# Altium integrated library Linear Technology Power Management Switching Regulator LTC1174-LTC3901.IntLib: 2647 symbols (part 282 of 364)
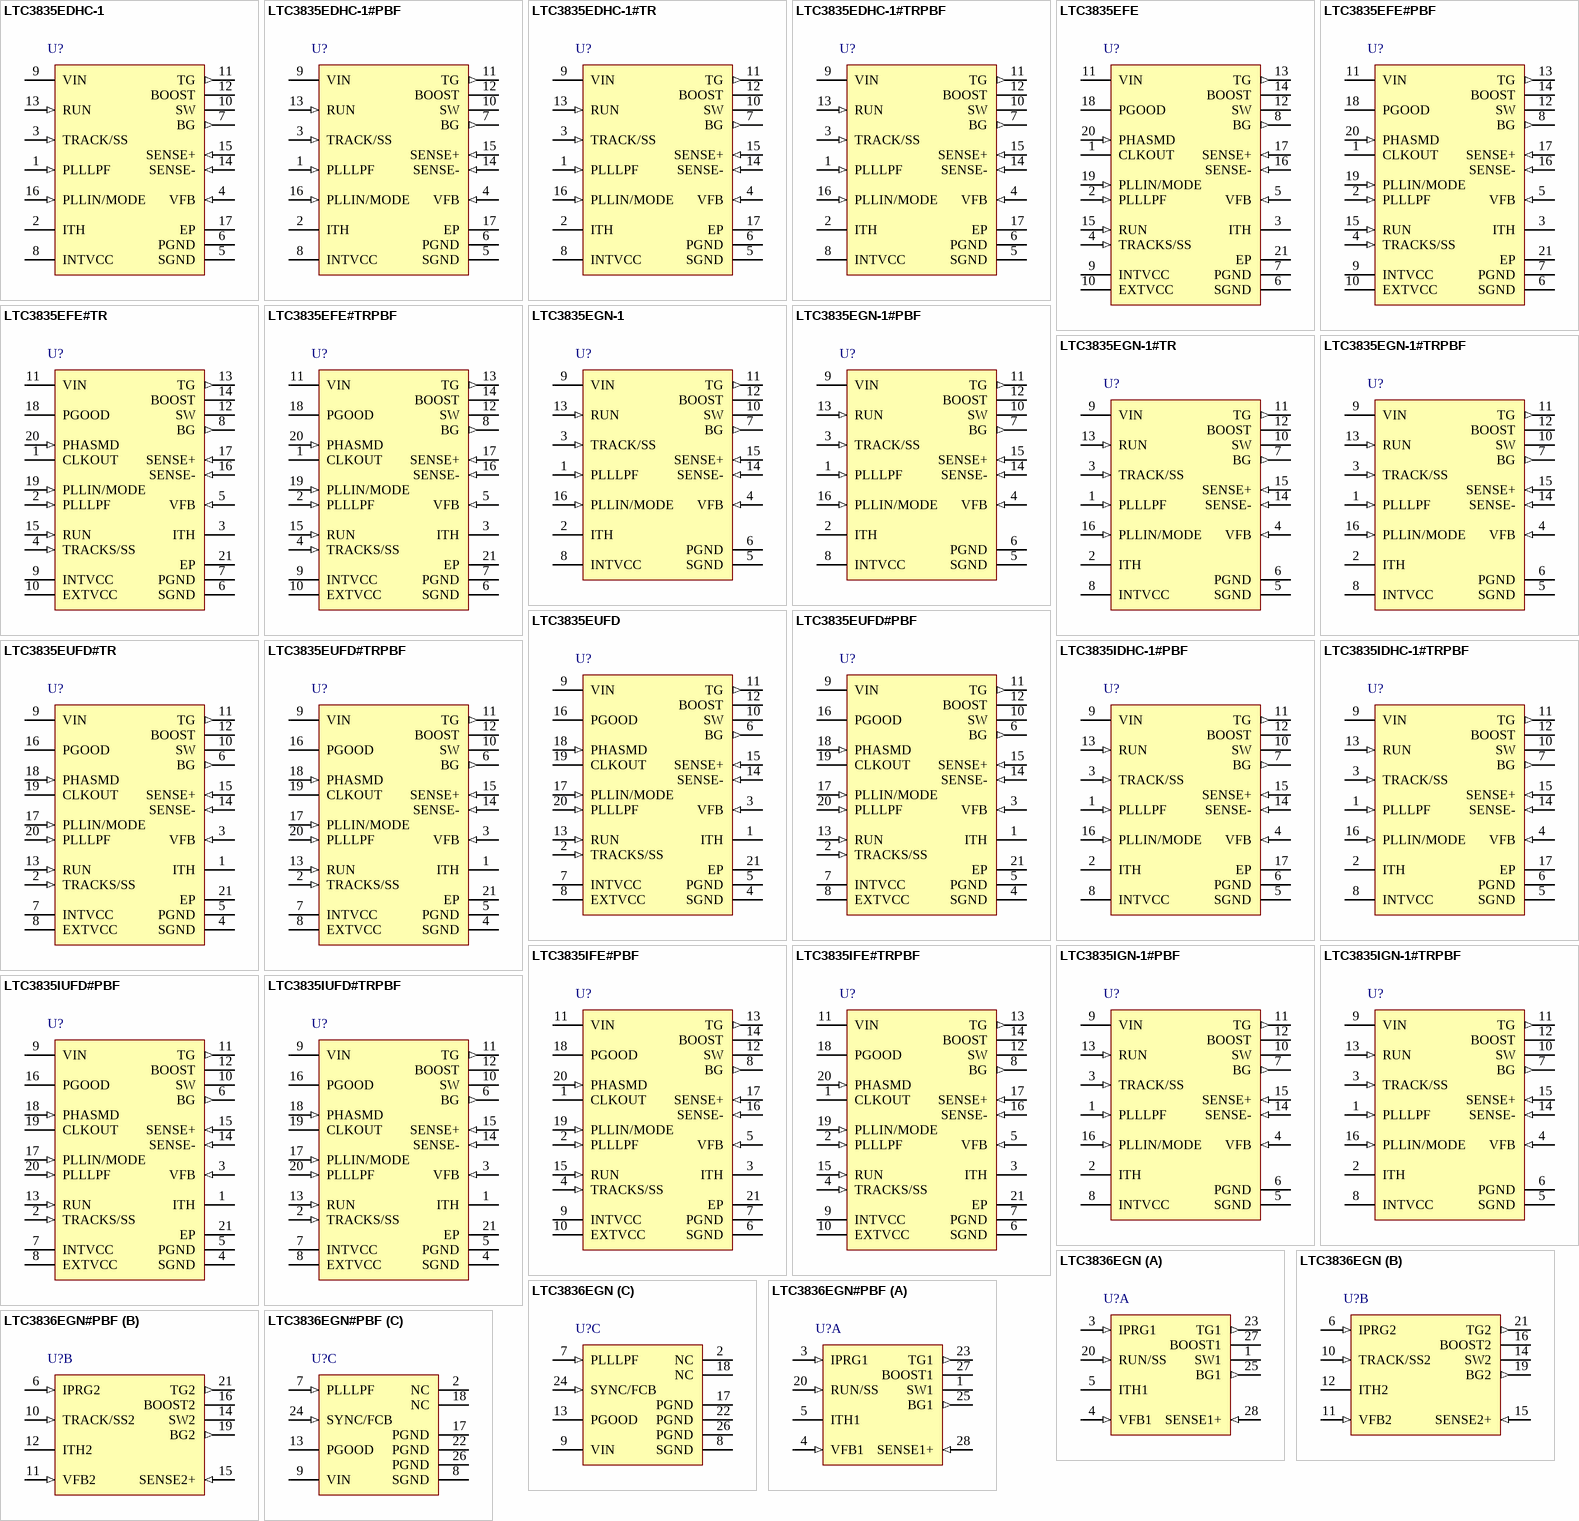
[diagram p361: symbols LTC3835EDHC-1 to LTC3836EGN#PBF]

## LTC3835EUFD#TRPBF
designator U?
Low IQ Synchronous Step-Down Controller, 20-pin QFN (UFD-20), -40 to 85 degC, Pb-Free, Tape and Reel; Manufacturer: Linear Technology; PartNumber: LTC3835EUFD#TRPBF; Frequency Sync Range: 140kHz - 650kHz; Number of Outputs: 1; DatasheetVersion: Rev. D; PackageVersion: Rev. B, 06/2010; PackageReference: UFD-20; PackageDescription: 20-Pin Plastic QFN, Body 5 x 4 mm, Pitch 0.5 mm; Supplier 1: Digi-Key; Supplier Part Number 1: LTC3835EUFD#TRPBF-ND; Supplier 2: Newark; Supplier Part Number 2: 87T1005; Packing: Tape and Reel; RoHS: TRUE; Mounting Technology: Surface Mount; Code_JEDEC: MO-220; ComponentLink1Description: Manufacturer URL; ComponentLink1URL: http://www.linear.com/; ComponentLink2Description: Datasheet; ComponentLink2URL: http://cds.linear.com/docs/en/datasheet/3835fd.pdf; ComponentLink3Description: Package Specification; ComponentLink3URL: http://cds.linear.com/docs/en/packaging/QFN_20_05-08-1711.pdf
footprint LT-UFD-20_N (QFN, 20-Leads, Body 5.1x4.1mm, Pitch 0.5mm, Thermal Pad 2.65x3.65mm, IPC Medium Density)
footprint LT-UFD-20_L (QFN, 20-Leads, Body 5.1x4.1mm, Pitch 0.5mm, Thermal Pad 2.65x3.65mm, IPC High Density)
footprint LT-UFD-20_M (QFN, 20-Leads, Body 5.1x4.1mm, Pitch 0.5mm, Thermal Pad 2.65x3.65mm, IPC Low Density)
pins: 1 ITH "Error Amplifier Outputs and Switching Regulator Compensation Points. The current comparator trip point increases with this control voltage.", 2 TRACKS/SS (in) "External Tracking and Soft-Start Input.", 3 VFB (in) "Receives the remotely sensed feedback voltage from an external resistive divider across the output.", 4 SGND (power) "Small-Signal Ground. Must be routed separately from high current grounds to the common (-) terminals of the input capacitor.", 5 PGND (power) "Driver Power Ground. Connects to the source of bottom (synchronous) N-channel MOSFET, anode of the Schottky rectifier and the (-) terminal of CIN.", 6 BG (out) "High Current Gate Drive for Bottom (Synchronous) N-Channel MOSFET. Voltage swing at this pin is from ground to INTVCC.", 7 INTVCC (power) "Output of the Internal Linear Low Dropout Regulator.", 8 EXTVCC (power) "External Power Input to an Internal LDO Connected to INTVCC. This LDO supplies VCC power, bypassing the internal LDO powered from VIN whenever EXTVCC is higher than 4.7V. See EXTVCC Connection in the Applications Information (See Datasheet)", 9 VIN (power) "Main Supply Pin. A bypass capacitor should be tied between this pin and the signal ground pin.", 10 SW "Switch Node Connections to Inductor. Voltage swing at this pin is from a Schottky diode (external) voltage drop below ground to VIN.", 11 TG (out) "High Current Gate Drive for Top N-Channel MOSFET. These are the outputs of floating drivers with a voltage swing equal to INTVCC - 0.5V superimposed on the switch node voltage SW.", 12 BOOST "Bootstrapped Supply to the Topside Floating Driver. A capacitor is connected between the BOOST and SW pins and a Schottky diode is tied between the BOOST and INTVCC pins. Voltage swing at the BOOST pin is from INTVCC to (VIN (See Datasheet)", 13 RUN (in) "Digital Run Control Input for Controller.", 14 SENSE- (in) "The (-) Input to the Differential Current Comparator.", 15 SENSE+ (in) "The (+) Input to the Differential Current Comparator. The ITH pin voltage and controlled offsets between the SENSE- and SENSE+ pins in conjunction with RSENSE set the current trip threshold.", 16 PGOOD (oc) "Open-Drain Logic Output. PGOOD is pulled to ground when the voltage on the VFB pin is not within +/-10% of its set point.", 17 PLLIN/MODE (in) "External Synchronization Input to Phase Detector and Forced Continuous Control Input.", 18 PHASMD (in) "Control Input to Phase Selector which determines the phase relationships between TG and the CLKOUT signal.", 19 CLKOUT (oc) "Open-Drain Output Clock Signal available to daisy-chain other controller ICs for additional MOSFET driver stages/phases.", 20 PLLLPF (in) "The phase-locked loop’s lowpass filter is tied to this pin when synchronizing to an external clock. Alternatively, tie this pin to GND, VIN or leave floating to select 250kHz, 530kHz or 400kHz switching frequency.", 21 EP (power)

## LTC3835IDHC-1#PBF
designator U?
Low IQ Synchronous Step-Down Controller, 16-pin SON (DHC-16), -40 to 85 degC, Pb-Free; Manufacturer: Linear Technology; PartNumber: LTC3835IDHC-1#PBF; Frequency Sync Range: 140kHz - 650kHz; Number of Outputs: 1; DatasheetVersion: Rev. C; PackageVersion: Jun-10; PackageReference: DHC-16; PackageDescription: 16-Pin Plastic DFN, Body 5 x 3 mm, Pitch 0.5 mm; Supplier 1: Digi-Key; Supplier Part Number 1: LTC3835IDHC-1#PBF-ND; RoHS: TRUE; Mounting Technology: Surface Mount; Code_JEDEC: MO-229; ComponentLink1Description: Manufacturer URL; ComponentLink1URL: http://www.linear.com/; ComponentLink2Description: Datasheet; ComponentLink2URL: http://cds.linear.com/docs/en/datasheet/38351fc.pdf; ComponentLink3Description: Package Specification; ComponentLink3URL: http://cds.linear.com/docs/en/packaging/DFN_16_05-08-1706.pdf
footprint LT-DHC-16_V (SON, 16-Leads, Body 5x3mm, Pitch 0.5mm, Thermal Pad 4.4X1.65mm)
pins: 1 PLLLPF (in) "The phase-locked loop’s lowpass filter is tied to this pin when synchronizing to an external clock. Alternatively, tie this pin to GND, INTVCC or leave floating to select 250kHz, 530kHz or 400kHz switching frequency.", 2 ITH "Error Amplifier Outputs and Switching Regulator Compensation Points. The current comparator trip point increases with this control voltage.", 3 TRACK/SS (in) "External Tracking and Soft-Start Input.", 4 VFB (in) "Receives the remotely sensed feedback voltage from an external resistive divider across the output.", 5 SGND (power) "Small Signal Ground. Must be routed separately from high current grounds to the common (-) terminals of the input capacitor.", 6 PGND (power) "Driver Power Ground. Connects to the source of bottom (synchronous) N-channel MOSFET, anode of the Schottky rectifier and the (-) terminal of CIN.", 7 BG (out) "High Current Gate Drive for Bottom (Synchronous) N-Channel MOSFET. Voltage swing at this pin is from ground to INTVCC.", 8 INTVCC (power) "Output of the Internal Linear Low Dropout Regulator. The driver and control circuits are powered from this voltage source. Must be decoupled to power ground with a minimum of 4.7uF tantalum or ceramic capacitor.", 9 VIN (power) "Main Supply Pin. A bypass capacitor should be tied between this pin and the signal ground pin.", 10 SW "Switch Node Connections to Inductor. Voltage swing at this pin is from a Schottky diode (external) voltage drop below ground to VIN.", 11 TG (out) "High Current Gate Drive for Top Nchannel MOSFET. These are the outputs of floating drivers with a voltage swing equal to INTVCC - 0.5V superimposed on the switch node voltage SW.", 12 BOOST "Bootstrapped Supply to the Top Side Floating Driver. A capacitor is connected between the BOOST and SW pins and a Schottky diode is tied between the BOOST and INTVCC pins. Voltage swing at the BOOST pin is from INTVCC to (See Datasheet)", 13 RUN (in) "Digital Run Control Input for Controller.", 14 SENSE- (in) "The (-) Input to the Differential Current Comparator.", 15 SENSE+ (in) "The (+) Input to the Differential Current Comparator. The ITH pin voltage and controlled offsets between the SENSE- and SENSE+ pins in conjunction with RSENSE set the current trip threshold.", 16 PLLIN/MODE (in) "External Synchronization Input to Phase Detector and Forced Continuous Control Input. When an external clock is applied to this pin, the phase-locked loop will force the rising TG signal to be synchronized with the rising (See Datasheet)", 17 EP (power) "SGND. Must be soldered to PCB."

## LTC3835IDHC-1#TRPBF
designator U?
Low IQ Synchronous Step-Down Controller, 16-pin SON (DHC-16), -40 to 85 degC, Pb-Free, Tape and Reel; Manufacturer: Linear Technology; PartNumber: LTC3835IDHC-1#TRPBF; Frequency Sync Range: 140kHz - 650kHz; Number of Outputs: 1; DatasheetVersion: Rev. C; PackageVersion: Jun-10; PackageReference: DHC-16; PackageDescription: 16-Pin Plastic DFN, Body 5 x 3 mm, Pitch 0.5 mm; Supplier 1: Digi-Key; Supplier Part Number 1: LTC3835IDHC-1#TRPBF-ND; Packing: Tape and Reel; RoHS: TRUE; Mounting Technology: Surface Mount; Code_JEDEC: MO-229; ComponentLink1Description: Manufacturer URL; ComponentLink1URL: http://www.linear.com/; ComponentLink2Description: Datasheet; ComponentLink2URL: http://cds.linear.com/docs/en/datasheet/38351fc.pdf; ComponentLink3Description: Package Specification; ComponentLink3URL: http://cds.linear.com/docs/en/packaging/DFN_16_05-08-1706.pdf
footprint LT-DHC-16_V (SON, 16-Leads, Body 5x3mm, Pitch 0.5mm, Thermal Pad 4.4X1.65mm)
pins: 1 PLLLPF (in) "The phase-locked loop’s lowpass filter is tied to this pin when synchronizing to an external clock. Alternatively, tie this pin to GND, INTVCC or leave floating to select 250kHz, 530kHz or 400kHz switching frequency.", 2 ITH "Error Amplifier Outputs and Switching Regulator Compensation Points. The current comparator trip point increases with this control voltage.", 3 TRACK/SS (in) "External Tracking and Soft-Start Input.", 4 VFB (in) "Receives the remotely sensed feedback voltage from an external resistive divider across the output.", 5 SGND (power) "Small Signal Ground. Must be routed separately from high current grounds to the common (-) terminals of the input capacitor.", 6 PGND (power) "Driver Power Ground. Connects to the source of bottom (synchronous) N-channel MOSFET, anode of the Schottky rectifier and the (-) terminal of CIN.", 7 BG (out) "High Current Gate Drive for Bottom (Synchronous) N-Channel MOSFET. Voltage swing at this pin is from ground to INTVCC.", 8 INTVCC (power) "Output of the Internal Linear Low Dropout Regulator. The driver and control circuits are powered from this voltage source. Must be decoupled to power ground with a minimum of 4.7uF tantalum or ceramic capacitor.", 9 VIN (power) "Main Supply Pin. A bypass capacitor should be tied between this pin and the signal ground pin.", 10 SW "Switch Node Connections to Inductor. Voltage swing at this pin is from a Schottky diode (external) voltage drop below ground to VIN.", 11 TG (out) "High Current Gate Drive for Top Nchannel MOSFET. These are the outputs of floating drivers with a voltage swing equal to INTVCC - 0.5V superimposed on the switch node voltage SW.", 12 BOOST "Bootstrapped Supply to the Top Side Floating Driver. A capacitor is connected between the BOOST and SW pins and a Schottky diode is tied between the BOOST and INTVCC pins. Voltage swing at the BOOST pin is from INTVCC to (See Datasheet)", 13 RUN (in) "Digital Run Control Input for Controller.", 14 SENSE- (in) "The (-) Input to the Differential Current Comparator.", 15 SENSE+ (in) "The (+) Input to the Differential Current Comparator. The ITH pin voltage and controlled offsets between the SENSE- and SENSE+ pins in conjunction with RSENSE set the current trip threshold.", 16 PLLIN/MODE (in) "External Synchronization Input to Phase Detector and Forced Continuous Control Input. When an external clock is applied to this pin, the phase-locked loop will force the rising TG signal to be synchronized with the rising (See Datasheet)", 17 EP (power) "SGND. Must be soldered to PCB."